# EAGLE library part DUAL-DSUB9 (library connector-jqi)
ASUB-227-09TPXX dual dsub9 connector
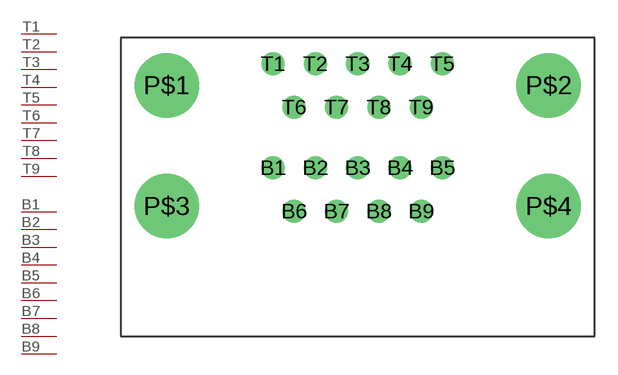
[diagram p4: symbol with the pads of ASUB-227-09TPXX; footprint ASUB-227-09TPXX]

Designator prefix B; gates G$1=DSUB9 G$2=DSUB9

## DUAL-DSUB9  [ASUB-227-09TPXX]
B1  G$1:P$1
B2  G$1:P$2
B3  G$1:P$3
B4  G$1:P$4
B5  G$1:P$5
B6  G$1:P$6
B7  G$1:P$7
B8  G$1:P$8
B9  G$1:P$9
T1  G$2:P$1
T2  G$2:P$2
T3  G$2:P$3
T4  G$2:P$4
T5  G$2:P$5
T6  G$2:P$6
T7  G$2:P$7
T8  G$2:P$8
T9  G$2:P$9

## Footprint ASUB-227-09TPXX (pad centres in mm)
drill 1: B1 -5.54,11.02; B2 -2.77,11.02; B3 0,11.02; B4 2.77,11.02; B5 5.54,11.02; B6 -4.155,8.18; B7 -1.385,8.18; B8 1.385,8.18; B9 4.155,8.18; T1 -5.54,17.82; T2 -2.77,17.82; T3 0,17.82; T4 2.77,17.82; T5 5.54,17.82; T6 -4.155,14.98; T7 -1.385,14.98; T8 1.385,14.98; T9 4.155,14.98
drill 3.2: P$1 -12.5,16.4; P$2 12.5,16.4; P$3 -12.5,8.5; P$4 12.5,8.5